# Altium schematic symbol library B2B-XH-A.SchLib: 1 symbol
Pins are listed as number, name and electrical type; pins without a type are passive.

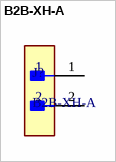
[diagram p0: symbol B2B-XH-A]

## B2B-XH-A
designator J?
footprint B2B-XH-A
pins: 1, 2